# Altium schematic symbol library Conectori.SchLib: 66 symbols
Pins are listed as number, name and electrical type; pins without a type are passive.

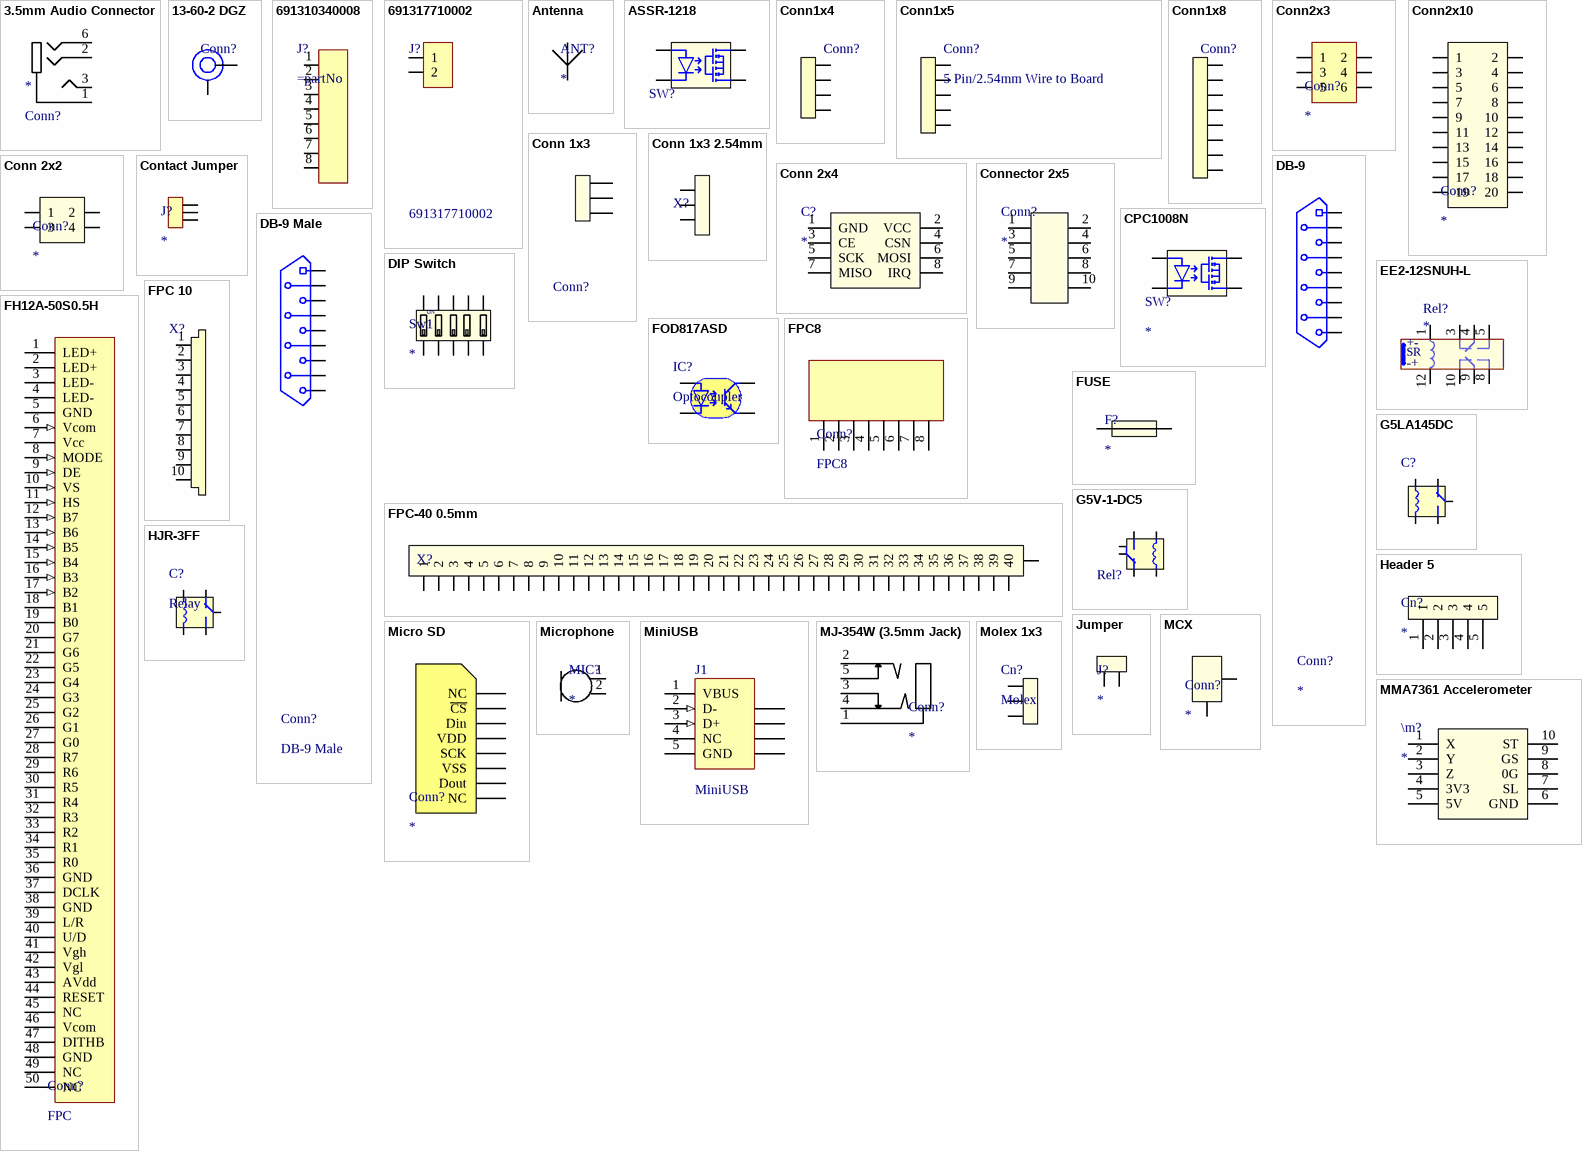
[diagram p0: symbols 3.5mm Audio Connector to Molex 1x3]

## 3.5mm Audio Connector
designator *, comment Conn?
Lötbarkeit RoHS: YES; Material RoHS: YES; ComponentLink1Description: Datasheet
footprint FC68125 (3.5mm Audio Connector)
pins: 1 1S, 2 2R, 3 3T, 6 6SR

## 13-60-2 DGZ
designator Conn?  (value not drawn)
BNC Coaxial 50R Right Angle; Manufacturer: MULTICOMP; Part Specification: BNC, 50R, <1GHz; Ordercode: 13-60-2 DGZ; ComponentLink1URL: http://www.farnell.com/cad/1661793.pdf; Lötbarkeit RoHS: YES; Material RoHS: YES; Temperature Range: 40°C to +60°C; ComponentLink1Description: Datasheet
footprint BNC Coaxial
pins: 1 GND, 2 Signal

## 691310340008
designator J?
WR-TBL Terminal Blocks - Serie 3103; Manufacturer: Würth Elektronik eiSos GmbH; Part Specification: 10Pin/3.81mm; Ordercode: 691310340008; ComponentLink1URL: http://www.we-online.de; ComponentLink1Description: Datasheet; Lötbarkeit RoHS: YES; Material RoHS: YES; Temperature Range: -40 °C to +115 °C
footprint 691310340008 (Serie 3103 - 3.81 mm _ 8 pins)
pins: 1, 2, 3, 4, 5, 6, 7, 8

## 691317710002
designator J?
WR-TBL Terminal block - serie 3177 - 5.00mm; Manufacturer: Würth Elektronik eiSos GmbH; ComponentLink1URL: http://katalog.we-online.de/em/datasheet/6913177100xx.pdf; Ordercode: 691317710002; Lötbarkeit RoHS: YES; Material RoHS: YES; ComponentLink1Description: Datasheet
footprint 691317710002 (5.00mm - Closed Horizhontal PCB Header with Flanges - 02p)
pins: 1, 2

## Antenna
designator ANT?
Lötbarkeit RoHS: YES; Material RoHS: YES; ComponentLink1Description: Datasheet
footprint ANT Chip
pins: 1 A

## ASSR-1218
designator SW?, comment Solid State Relay, 200mA, 10R  (value not drawn)
Ordercode: ASSR-1218-003E; Lötbarkeit RoHS: YES; Material RoHS: YES; Part Specification: ASSR-1218; ComponentLink1Description: Datasheet
footprint SOIC - 4 (2.54) (SOIC, 6-Leads, Body 4,10x3,80mm, Pitch 1,27mm, IPC Medium Density)
pins: 1   C+, 2   C-, 3 L1, 4 L2

## Conn1x4
designator Conn?, comment 4Pin 2.54mm  (value not drawn)
Ordercode: 22-28-4040; Lötbarkeit RoHS: YES; Material RoHS: YES; ComponentLink1Description: Datasheet
footprint Conn 1x4
pins: 1, 2, 3, 4

## Conn1x5
designator Conn?, comment 5 Pin/2.54mm Wire to Board
Ordercode: 22-23-2051; Lötbarkeit RoHS: YES; Material RoHS: YES; ComponentLink1Description: Datasheet
footprint Conn 1x5
pins: 1, 2, 3, 4, 5

## Conn1x8
designator Conn?, comment 1x8  (value not drawn)
Lötbarkeit RoHS: YES; Material RoHS: YES; ComponentLink1Description: Datasheet
footprint Conn 1x8
footprint Conn 1x8 SMD
pins: 1, 2, 3, 4, 5, 6, 7, 8

## Conn2x3
designator Conn?
Lötbarkeit RoHS: YES; Material RoHS: YES; ComponentLink1Description: Datasheet
footprint Conn2x3
pins: 1, 2, 3, 4, 5, 6

## Conn2x10
designator Conn?
Lötbarkeit RoHS: YES; Material RoHS: YES; ComponentLink1Description: Datasheet
footprint Conn 2x10
pins: 1, 2, 3, 4, 5, 6, 7, 8, 9, 10, 11, 12, 13, 14, 15, 16, 17, 18, 19, 20

## Conn 1x3
designator Conn?, comment 3Pin/2.54mm Wre to Board  (value not drawn)
Ordercode: 22-23-2031; Lötbarkeit RoHS: YES; Material RoHS: YES; ComponentLink1Description: Datasheet
footprint Conn 1x3
footprint Conn 1x3_2
pins: 1, 2, 3

## Conn 1x3 2.54mm
designator X?, comment 3Pin/2.54mm Wire to Board  (value not drawn)
Ordercode: 22-23-2031; Lötbarkeit RoHS: YES; Material RoHS: YES; ComponentLink1Description: Datasheet
footprint Molex 1x3
pins: 1, 2, 3

## Conn 2x2
designator Conn?
Lötbarkeit RoHS: YES; Material RoHS: YES; ComponentLink1Description: Datasheet
footprint Conn 2x2
pins: 1, 2, 3, 4

## Conn 2x4
designator C?
Lötbarkeit RoHS: YES; Material RoHS: YES; ComponentLink1Description: Datasheet
footprint Conn 2x4
pins: 1 GND, 2 VCC, 3 CE, 4 CSN, 5 SCK, 6 MOSI, 7 MISO, 8 IRQ

## Connector 2x5
designator Conn?
Lötbarkeit RoHS: YES; Material RoHS: YES; ComponentLink1Description: Datasheet
footprint Conn 2x5
pins: 1, 2, 3, 4, 5, 6, 7, 8, 9, 10

## Contact Jumper
designator J?
Lötbarkeit RoHS: YES; Material RoHS: YES; ComponentLink1Description: Datasheet
footprint contact jumper
pins: 1, 2, 3

## CPC1008N
designator SW?
Solid State Relay; Ordercode: CPC1008N; Lötbarkeit RoHS: YES; Material RoHS: YES; Part Specification: CPC1008N; ComponentLink1Description: Datasheet
footprint SOIC - 4 (2.54) (SOIC, 6-Leads, Body 4,10x3,80mm, Pitch 1,27mm, IPC Medium Density)
pins: 1   C+, 2   C-, 3 L1, 4 L2

## DB-9
designator Conn?
DB-9 Connector; Lötbarkeit RoHS: YES; Material RoHS: YES; ComponentLink1Description: Datasheet
footprint DB-9
pins: 1 GND, 2 GND, 3 GND, 4 GND, 5 GND, 6 GND, 7 GND, 8 GND, 9 GND

## DB-9 Male
designator Conn?
Ordercode: 1-1634580-2; Lötbarkeit RoHS: YES; Material RoHS: YES; Part Specification: DB-9 Male; ComponentLink1Description: Datasheet
footprint DB-9
pins: 1 GND, 2 GND, 3 GND, 4 GND, 5 GND, 6 GND, 7 GND, 8 GND, 9 GND

## DIP Switch
designator Sw1
Lötbarkeit RoHS: YES; Material RoHS: YES; ComponentLink1Description: Datasheet
footprint DIP Switch 5
pins: 1, 2, 3, 4, 5, 6, 7, 8, 9, 10
text: ON

## EE2-12SNUH-L
designator Rel?
footprint Relay_EE2-12SNUH-L (Relay, SMD, 10 Pins)
pins: 1, 3, 4, 5, 8, 9, 10, 12
text: +-; SR; -+

## FH12A-50S0.5H
designator Conn?, comment FPC
Conector pentru Display; Lötbarkeit RoHS: YES; Material RoHS: YES; ComponentLink1Description: Datasheet
footprint FH12A-50S0.5H (Conector pentru Display)
pins: 1 LED+ (power), 2 LED+ (power), 3 LED- (power), 4 LED- (power), 5 GND (power), 6 Vcom (in), 7 Vcc (power), 8 MODE (in), 9 DE (in), 10 VS (in), 11 HS (in), 12 B7 (in), 13 B6 (in), 14 B5 (in), 15 B4 (in), 16 B3 (in), 17 B2 (in), 18 B1, 19 B0, 20 G7, 21 G6, 22 G5, 23 G4, 24 G3, 25 G2, 26 G1, 27 G0, 28 R7, 29 R6, 30 R5, 31 R4, 32 R3, 33 R2, 34 R1, 35 R0, 36 GND (power), 37 DCLK, 38 GND (power), 39 L/R, 40 U/D, 41 Vgh, 42 Vgl, 43 AVdd, 44 RESET, 45 NC, 46 Vcom, 47 DITHB, 48 GND, 49 NC, 50 NC

## FOD817ASD
designator IC?, comment Optocoupler
Ordercode: FOD817ASD; Lötbarkeit RoHS: YES; Material RoHS: YES; Part Specification: FOD817ASD; ComponentLink1Description: Datasheet
footprint Optocoupler
pins: 1   C+, 2   C-, 3 L1, 4 L2

## FPC8
designator Conn?
Lötbarkeit RoHS: YES; Material RoHS: YES; ComponentLink1Description: Datasheet
footprint FPC8
pins: 1, 2, 3, 4, 5, 6, 7, 8

## FPC 10
designator X?  (value not drawn)
1mm, vertical; Ordercode: FPC 10 1mm Vertical; Lötbarkeit RoHS: YES; Material RoHS: YES; Part Specification: FPC 10 1mm Vertical; ComponentLink1Description: Datasheet
footprint FPC 10 1mm Vertical
pins: 1, 2, 3, 4, 5, 6, 7, 8, 9, 10

## FPC-40 0.5mm
designator X?, comment FPC 40Pin 0.5mm  (value not drawn)
Ordercode: 4-1734592-0; Lötbarkeit RoHS: YES; Material RoHS: YES; Part Specification: FPC 40Pin 0.5mm; ComponentLink1Description: Datasheet
footprint FPC 40Pin 0.5mm
pins: 0, 1, 2, 3, 4, 5, 6, 7, 8, 9, 10, 11, 12, 13, 14, 15, 16, 17, 18, 19, 20, 21, 22, 23, 24, 25, 26, 27, 28, 29, 30, 31, 32, 33, 34, 35, 36, 37, 38, 39, 40

## FUSE
designator F?
Lötbarkeit RoHS: YES; Material RoHS: YES; ComponentLink1Description: Datasheet
footprint Fuse Holder (Cartridge Fuse Holder)
footprint Fuse Holder 2
pins: 1, 2

## G5LA145DC
designator C?, comment Relay 5VDC,10A,69.4R  (value not drawn)
Ordercode: G5LA145DC; Lötbarkeit RoHS: YES; Material RoHS: YES; ComponentLink1Description: Datasheet
footprint Relay HJR-3FF
pins: 1, 2, 3, 4, 5

## G5V-1-DC5
designator Rel?, comment Signal Relay 12,5*7,5*10 / 5V / 1A  (value not drawn)
Ordercode: G5V-1-DC5; Lötbarkeit RoHS: YES; Material RoHS: YES; Part Specification: G5V-1-DC5; ComponentLink1Description: Datasheet
footprint Relay 12.5,7.5,10
pins: 1, 2, 3, 4, 5, 6

## Header 5
designator Cn?
Lötbarkeit RoHS: YES; Material RoHS: YES; ComponentLink1Description: Datasheet
footprint Header 5
pins: 1, 2, 3, 4, 5

## HJR-3FF
designator C?, comment Relay
Relay 7A; Lötbarkeit RoHS: YES; Material RoHS: YES; ComponentLink1Description: Datasheet
footprint Relay HJR-3FF
pins: 1, 2, 3, 4, 5

## Jumper
designator J?
Lötbarkeit RoHS: YES; Material RoHS: YES; ComponentLink1Description: Datasheet
footprint Jumper
pins: 1, 2

## MCX
designator Conn?
Lötbarkeit RoHS: YES; Material RoHS: YES; ComponentLink1Description: Datasheet
footprint MCX
pins: 1 GND, 2 IN

## Micro SD
designator Conn?
Lötbarkeit RoHS: YES; Material RoHS: YES; ComponentLink1Description: Datasheet
footprint Micro SD
pins: 1 NC, 2 ~{CS}, 3 Din, 4 VDD, 5 SCK, 6 VSS, 7 Dout, 8 NC

## Microphone
designator MIC?
Lötbarkeit RoHS: YES; Material RoHS: YES; ComponentLink1Description: Datasheet
footprint Microphone
pins: 1, 2

## MiniUSB
designator J1
Mini USB, Type B; Ordercode: 1734035-2; Lötbarkeit RoHS: YES; Material RoHS: YES; ComponentLink1Description: Datasheet
footprint USB_miniB (Connector; USB2.0, Type AB, SM; 5 Position; Right Angle)
pins: 1 VBUS (power) "Power", 2 D- (in) "-DATA", 3 D+ (in) "+DATA", 4 NC "Shield", 5 GND (power) "Ground", 6 SHLD "Shield", 7 SHLD "Shield", 8 SHLD "Shield", 9 SHLD "Shield"

## MJ-354W (3.5mm Jack)
designator Conn?
Lötbarkeit RoHS: YES; Material RoHS: YES; ComponentLink1Description: Datasheet
footprint MJ-354W-SG
pins: 1, 2, 3, 4, 5

## MMA7361 Accelerometer
designator \m?
Lötbarkeit RoHS: YES; Material RoHS: YES; ComponentLink1Description: Datasheet
footprint MMA 7361 (Accelerometer)
pins: 1 X, 2 Y, 3 Z, 4 3V3, 5 5V, 6 GND, 7 SL, 8 0G, 9 GS, 10 ST

## Molex 1x3
designator Cn?, comment Molex
Lötbarkeit RoHS: YES; Material RoHS: YES; ComponentLink1Description: Datasheet
footprint Molex 1x3
pins: 1, 2, 3

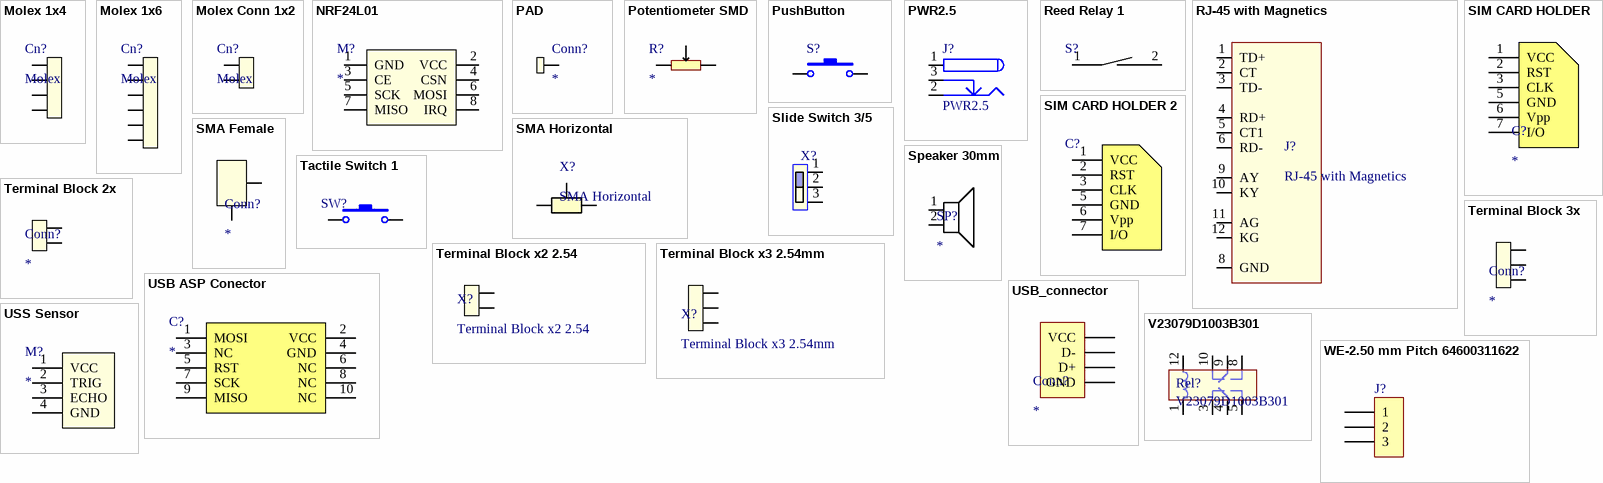
[diagram p1: symbols Molex 1x4 to WE-2.50 mm Pitch 64600311622]

## Molex 1x4
designator Cn?, comment Molex
Lötbarkeit RoHS: YES; Material RoHS: YES; ComponentLink1Description: Datasheet
footprint Molex 1x4
pins: 1, 2, 3, 4

## Molex 1x6
designator Cn?, comment Molex
Lötbarkeit RoHS: YES; Material RoHS: YES; ComponentLink1Description: Datasheet
footprint Molex 1x6
pins: 1, 2, 3, 4, 5, 6

## Molex Conn 1x2
designator Cn?, comment Molex
Lötbarkeit RoHS: YES; Material RoHS: YES; ComponentLink1Description: Datasheet
footprint Molex 1x2
pins: 1, 2

## NRF24L01
designator M?
Lötbarkeit RoHS: YES; Material RoHS: YES; ComponentLink1Description: Datasheet
footprint NRF24L01
pins: 1 GND, 2 VCC, 3 CE, 4 CSN, 5 SCK, 6 MOSI, 7 MISO, 8 IRQ

## PAD
designator Conn?
Lötbarkeit RoHS: YES; Material RoHS: YES; ComponentLink1Description: Datasheet
footprint PAD
footprint PAD SMD
pins: 1

## Potentiometer SMD
designator R?
Lötbarkeit RoHS: YES; Material RoHS: YES; ComponentLink1Description: Datasheet
footprint POT SMD
pins: 1, 2, 3

## PushButton
designator S?  (value not drawn)
Ordercode: SKHHBWA010; Lötbarkeit RoHS: YES; Material RoHS: YES; ComponentLink1Description: Datasheet
footprint Button (PushButton)
pins: 1, 2

## PWR2.5
designator J?
Low Voltage Power Supply Connector; Ordercode: RAPC712X; Lötbarkeit RoHS: YES; Material RoHS: YES; ComponentLink1Description: Datasheet
footprint DC-Jack
pins: 1 (power), 2 (power), 3 (power)

## Reed Relay 1
designator S?, comment Reed Relay, 125VAC, 10VA  (value not drawn)
Ordercode: GR560-1520; Lötbarkeit RoHS: YES; Material RoHS: YES; ComponentLink1Description: Datasheet
footprint Reed Relay 1
pins: 1, 2

## RJ-45 with Magnetics
designator J?
Manufacturer: STEWART CONNECTOR; Ordercode: SI-60062-F; ComponentLink1URL: http://www.farnell.com/datasheets/1523782.pdf; Lötbarkeit RoHS: YES; Material RoHS: YES; ComponentLink1Description: Datasheet
footprint RJ-45 (RJ-45 Ethernet connector)
pins: 1 TD+, 2 CT, 3 TD-, 4 RD+, 5 CT1, 6 RD-, 7 NC hidden, 8 GND, 9 AY, 10 KY, 11 AG, 12 KG

## SIM CARD HOLDER
designator C?
Lötbarkeit RoHS: YES; Material RoHS: YES; ComponentLink1Description: Datasheet
footprint SIM CARD HOLDER
pins: 1 VCC, 2 RST, 3 CLK, 5 GND, 6 Vpp, 7 I/O

## SIM CARD HOLDER 2
designator C?  (value not drawn)
Ordercode: 7111S2015X02LF; Lötbarkeit RoHS: YES; Material RoHS: YES; ComponentLink1Description: Datasheet
footprint SIM Card Holder 2
pins: 1 VCC, 2 RST, 3 CLK, 5 GND, 6 Vpp, 7 I/O

## Slide Switch 3/5
designator X?  (value not drawn)
Ordercode: OS102011MA1QN1; Lötbarkeit RoHS: YES; Material RoHS: YES; ComponentLink1Description: Datasheet
footprint Slide Switch 3/5
pins: 1, 2, 3

## SMA Female
designator Conn?
Lötbarkeit RoHS: YES; Material RoHS: YES; ComponentLink1Description: Datasheet
footprint SMA
pins: 1 GND, 2 IN

## SMA Horizontal
designator X?
Ordercode: 142-0701-851; Lötbarkeit RoHS: YES; Material RoHS: YES; ComponentLink1Description: Datasheet
footprint SMA Horizontal
pins: 1, 2, 2

## Speaker 30mm
designator SP?
Lötbarkeit RoHS: YES; Material RoHS: YES; ComponentLink1Description: Datasheet
footprint Speaker 30mm
pins: 1, 2

## Tactile Switch 1
designator SW?, comment SMD, 4Pin, 50mA  (value not drawn)
Ordercode: MC32882; Lötbarkeit RoHS: YES; Material RoHS: YES; ComponentLink1Description: Datasheet
footprint Button SMD
pins: 1, 2

## Terminal Block 2x
designator Conn?
Lötbarkeit RoHS: YES; Material RoHS: YES; ComponentLink1Description: Datasheet
footprint Terminal Block 2x
pins: 1, 2

## Terminal Block 3x
designator Conn?
Lötbarkeit RoHS: YES; Material RoHS: YES; ComponentLink1Description: Datasheet
footprint Terminal Block 3x
footprint Terminal Block x3 2.54mm
pins: 1, 2, 3

## Terminal Block x2 2.54
designator X?
Ordercode: 1725656; Lötbarkeit RoHS: YES; Material RoHS: YES; ComponentLink1Description: Datasheet
footprint Terminal Block x2 2.54
pins: 1, 2

## Terminal Block x3 2.54mm
designator X?
Ordercode: 1725669; Lötbarkeit RoHS: YES; Material RoHS: YES; ComponentLink1Description: Datasheet
footprint Terminal Block x3 2.54mm
pins: 1, 2, 3

## USB ASP Conector
designator C?
Lötbarkeit RoHS: YES; Material RoHS: YES; ComponentLink1Description: Datasheet
footprint Conn 2x5
pins: 1 MOSI, 2 VCC, 3 NC, 4 GND, 5 RST, 6 NC, 7 SCK, 8 NC, 9 MISO, 10 NC

## USB_connector
designator Conn?
Lötbarkeit RoHS: YES; Material RoHS: YES; ComponentLink1Description: Datasheet
footprint USB 1
pins: 1 VCC, 2 D-, 3 D+, 4 GND

## USS Sensor
designator M?
Lötbarkeit RoHS: YES; Material RoHS: YES; ComponentLink1Description: Datasheet
footprint Conector R4
pins: 1 VCC, 2 TRIG, 3 ECHO, 4 GND

## V23079D1003B301
designator Rel?
Relay, 12VDC,  1.029k, 2A, DPDT, Non-Latching; Manufacturer: TE CONNECTIVITY; ComponentLink1Description: Datasheet; ComponentLink1URL: http://www.farnell.com/datasheets/1717898.pdf?_ga=1.20380348.563432311.1467655787; Lötbarkeit RoHS: YES; Material RoHS: YES; Ordercode: V23079D1003B301; Part Specification: Relay, 12VDC,  1.029k, 2A, DPDT, Non-Latching; Temperature Range: -40°C to +125°C
footprint Relay_V23079D1003B301 (Relay, SMD, 10 Pins)
pins: 1, 3, 4, 5, 8, 9, 10, 12

## WE-2.50 mm Pitch 64600311622
designator J?  (value not drawn)
WR-WTB 2.50mm Male Shrouded Header; Manufacturer: Würth Elektronik eiSos GmbH; Ordercode: 68800311722; ComponentLink1URL: http://www.we-online.com; ComponentLink1Description: Datasheet; Lötbarkeit RoHS: YES; Material RoHS: YES
footprint 68800311722
pins: 1, 2, 3